# EAGLE library part X__JST_PH_STEHEND_6 (library 16112011___connector)
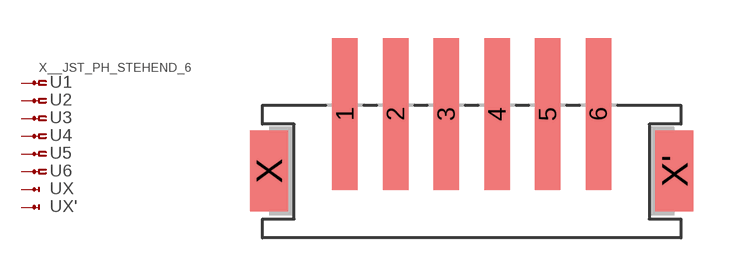
[diagram p21: symbol with the pads of JST_PH_STEHEND_6; footprint JST_PH_STEHEND_6]

Designator prefix -; gates 1=PHPIN-NV 2=PHPIN-N 3=PHPIN-N 4=PHPIN-N 5=PHPIN-N 6=PHPIN-N X=PHPIN-X X'=PHPIN-X

## X__JST_PH_STEHEND_6  [JST_PH_STEHEND_6]
1  1:1  pas
2  2:1  pas
3  3:1  pas
4  4:1  pas
5  5:1  pas
6  6:1  pas
X  X:1  pas
X'  X':1  pas

## Footprint JST_PH_STEHEND_6 (pad centres in mm)
smd 1 x 6: 1 0,-0.1; 2 2,-0.1; 3 4,-0.1; 4 6,-0.1; 5 8,-0.1; 6 10,-0.1
smd 1.5 x 3.2: X -3,-2.35; X' 13,-2.35